# Altium footprint library pcb_marking_demo.PcbLib: 14 footprints
Each footprint in its own frame and in the unit in brackets; x right, y up, seen from the top. Pads: shape width x height; smd on the part's side, far side on the other; paste and mask are expansions set on the pad; w line width, h text height; cw(c..) or ccw(c..) is an arc to the next point about the centre after c.
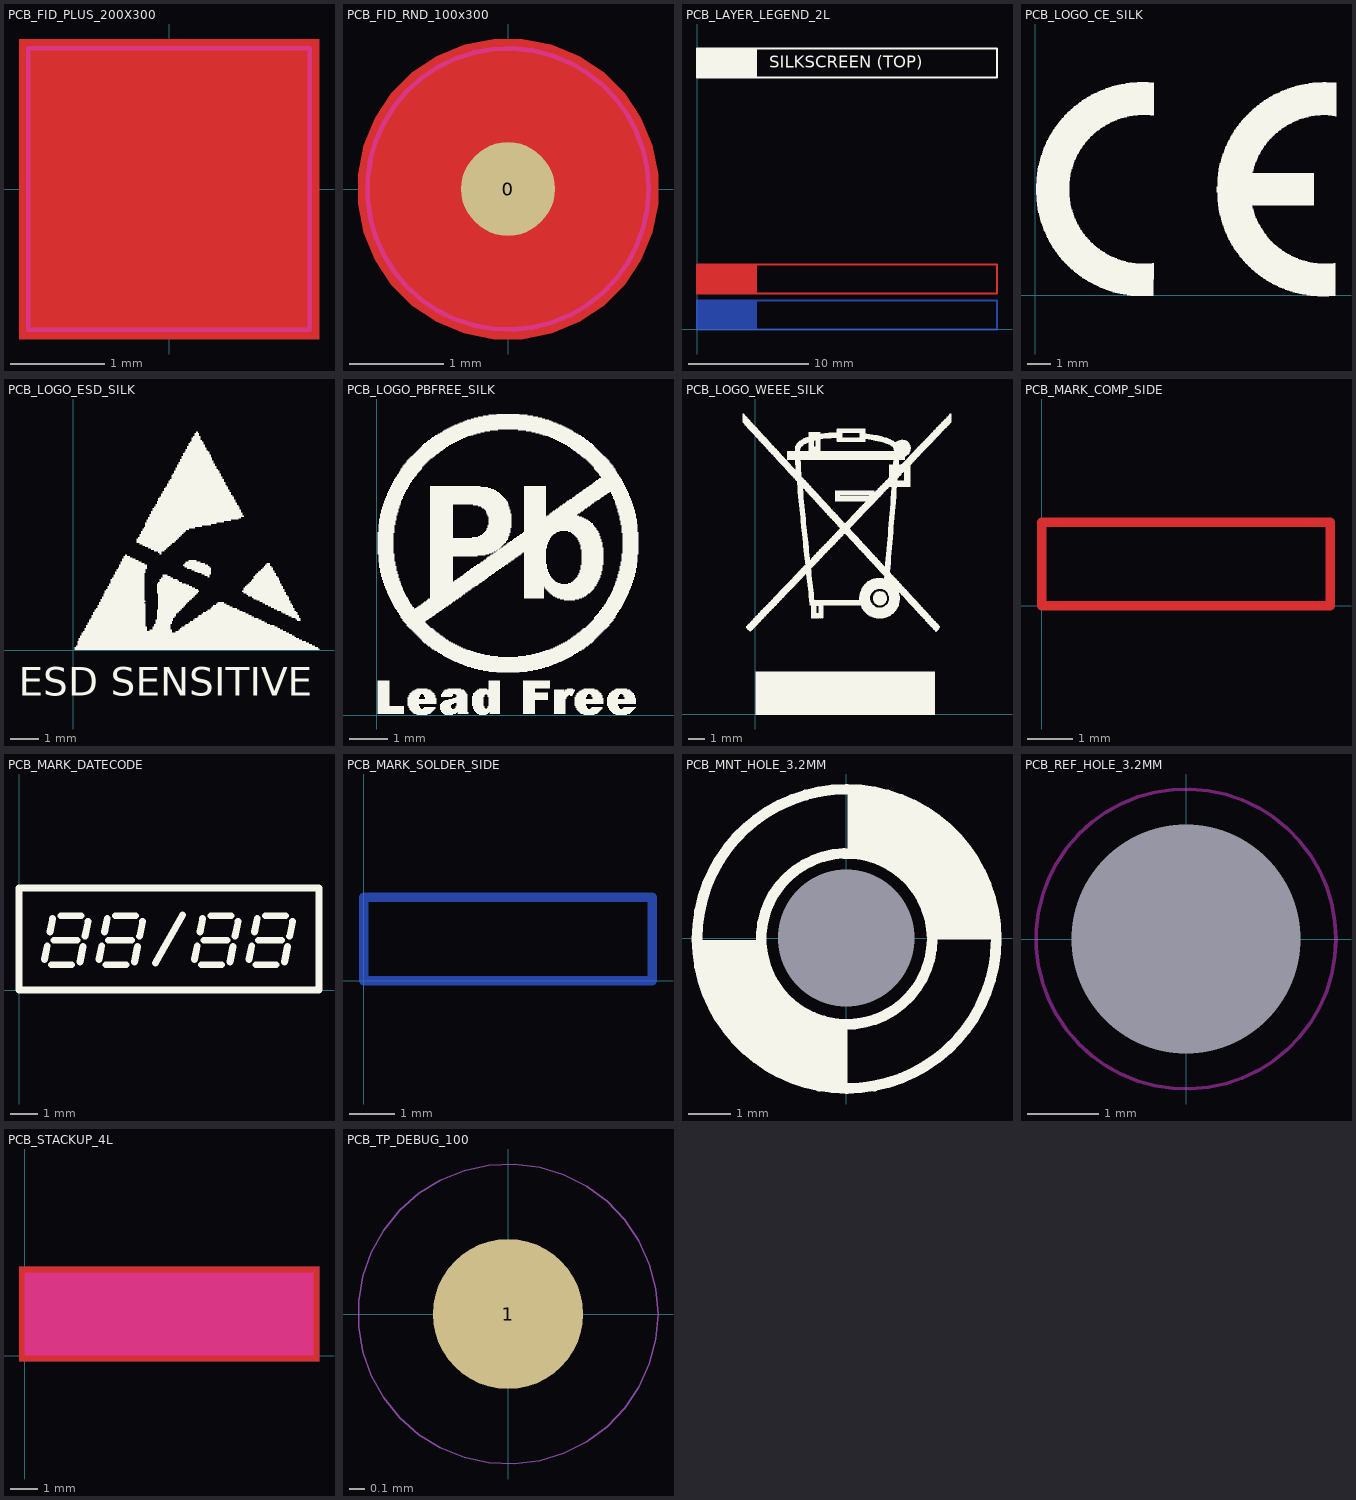
[diagram p0: the footprints below, top view; thin cyan lines are the x and y axes]

## PCB_FID_PLUS_200X300 [mm]
Top Layer:
  region: -0.2,-1 -0.2,-0.2 -1,-0.2 -1,0.2 -0.2,0.2 -0.2,1 0.2,1 0.2,0.2 1,0.2 1,-0.2 0.2,-0.2 0.2,-1
  pour cut-out: -1.6,1.6 1.6,1.6 1.6,-1.6 -1.6,-1.6
Top Layer keep-out:
  lines w0.05: -1.5,-1.5 1.5,-1.5 1.5,1.5 -1.5,1.5 -1.5,-1.5
Top Solder:
  rectangle: -1.5,-1.5 1.5,1.5

## PCB_FID_RND_100x300 [mm]
pads (1):
  round 1 smd paste-10 mask+1: 0(0,0)
Top Layer:
  pour cut-out: -1.6,0 -1.6,-0.158 -1.539,-0.467 -1.418,-0.758 -1.243,-1.02 -1.02,-1.243 -0.758,-1.418 -0.467,-1.539 -0.158,-1.6 0,-1.6 0.158,-1.6 0.467,-1.539 0.758,-1.418 1.02,-1.243 1.243,-1.02 1.418,-0.758 1.539,-0.467 1.6,-0.158 1.6,0 1.6,0.158 1.539,0.467 1.418,0.758 1.243,1.02 1.02,1.243 0.758,1.418 0.467,1.539 0.158,1.6 0,1.6 -0.158,1.6 -0.467,1.539 -0.758,1.418 -1.02,1.243 -1.243,1.02 -1.418,0.758 -1.539,0.467 -1.6,0.158
Top Layer keep-out:
  circle w0.05: c0,0 r1.5
Top Paste:
  pour cut-out: 0,1.6

## PCB_LAYER_LEGEND_2L [mm]
Top Layer:
  rectangle: 0,3 5,5.4
  lines w0.15: 0,3 25,3 25,5.4 0,5.4 0,3
  text "LAYER L1 (TOP)" at 6,3.8 h1
Bottom Layer:
  rectangle: 0,0 5,2.4
  lines w0.15: 0,0 0,2.4 25,2.4 25,0 0,0
  text "LAYER L2 (BOT)" at 6,0.8 h1
Top Overlay:
  rectangle: 0,21 5,23.4
  lines w0.15: 0,21 25,21 25,23.4 0,23.4 0,21
  text "SILKSCREEN (TOP)" at 6,21.8 h1
Bottom Overlay:
  rectangle: 0,18 5,20.4
  lines w0.15: 0,18 25,18 25,20.4 0,20.4 0,18
  text "SILKSCREEN (BOT)" at 6,18.8 h1
Top Paste:
  rectangle: 0,9 5,11.4
  lines w0.15: 0,9 25,9 25,11.4 0,11.4 0,9
  text "PASTEMASK (TOP)" at 6,9.8 h1
Bottom Paste:
  rectangle: 0,6 5,8.4
  lines w0.15: 0,6 25,6 25,8.4 0,8.4 0,6
  text "PASTEMASK (BOT)" at 6,6.8 h1
Top Solder:
  rectangle: 0,15 5,17.4
  lines w0.15: 0,15 25,15 25,17.4 0,17.4 0,15
  text "SOLDERMASK (TOP)" at 6,15.8 h1
Bottom Solder:
  rectangle: 0,12 5,14.4
  lines w0.15: 0,12 25,12 25,14.4 0,14.4 0,12
  text "SOLDERMASK (BOT)" at 6,12.8 h1

## PCB_LOGO_CE_SILK [mm]
Top Overlay:
  drawing of 717 lines, arcs and shapes, not listed

## PCB_LOGO_ESD_SILK [mm]
Top Overlay:
  drawing of 263 lines, arcs and shapes, not listed
  text "ESD SENSITIVE" at -1.9,-1.6 h1

## PCB_LOGO_PBFREE_SILK [mm]
Top Overlay:
  drawing of 1186 lines, arcs and shapes, not listed

## PCB_LOGO_WEEE_SILK [mm]
Top Overlay:
  drawing of 2013 lines, arcs and shapes, not listed

## PCB_MARK_COMP_SIDE [mm]
Top Layer:
  lines w0.203: 0,0 6.325,0 6.325,1.829 0,1.829 0,0
  text "C-SIDE" at 0.406,0.422 h1
Top Solder:
  rectangle: -0.127,-0.127 6.452,1.956

## PCB_MARK_DATECODE [mm]
Top Overlay:
  lines w0.25: 0,0 11,0 ; 0,3.75 11,3.75 ; 0.934,1.129 1.034,1.629 ; 1.134,2.129 1.234,2.629 ; 1.184,0.929 1.934,0.929 ; 1.284,1.829 2.134,1.829 ; 1.534,2.729 2.284,2.729 ; 2.234,1.029 2.348,1.601 ; 2.423,1.976 2.534,2.529 ; 2.934,1.129 3.034,1.629 ; 3.134,2.129 3.234,2.629 ; 3.184,0.929 3.934,0.929 ; 3.284,1.829 4.134,1.829 ; 3.534,2.729 4.284,2.729 ; 4.234,1.029 4.348,1.601 ; 4.423,1.976 4.534,2.529 ; 6.434,1.129 6.534,1.629 ; 6.634,2.129 6.734,2.629 ; 6.684,0.929 7.434,0.929 ; 6.784,1.829 7.634,1.829 ; 7.034,2.729 7.784,2.729 ; 7.734,1.029 7.848,1.601 ; 7.923,1.976 8.034,2.529 ; 8.434,1.129 8.534,1.629 ; 8.634,2.129 8.734,2.629 ; 8.684,0.929 9.434,0.929 ; 8.784,1.829 9.634,1.829 ; 9.034,2.729 9.784,2.729 ; 9.734,1.029 9.848,1.601 ; 9.923,1.976 10.034,2.529
  lines w0.254: 0,0 0,3.75 ; 5,1 6,2.75 ; 11,0 11,3.75

## PCB_MARK_SOLDER_SIDE [mm]
Bottom Layer:
  lines w0.203: 0,0 0,1.829 6.325,1.829 6.325,0 0,0
  text "S-SIDE" at 5.918,0.406 h1
Bottom Solder:
  rectangle: -0.127,-0.127 6.452,1.956

## PCB_MNT_HOLE_3.2MM [mm]
pads (1):
  round 0 hole 3.2 unplated: 0(0,0)
Top Overlay:
  circle w0.25: c0.007,-0.019 r2
  circle w0.25: c0.007,-0.019 r3.5
  region: -3.475,-0.175 -2,-0.175 -1.992,-0.329 -1.932,-0.631 -1.815,-0.915 -1.644,-1.171 -1.54,-1.285 -1.313,-1.512 -1.185,-1.628 -0.9,-1.818 -0.583,-1.95 -0.247,-2.017 -0.075,-2.025 -0.075,-3.525 -0.278,-3.493 -0.528,-3.493 -1.019,-3.396 -1.481,-3.204 -1.897,-2.926 -2.074,-2.749 -2.5,-2.475 -2.824,-1.987 -2.961,-1.85 -3.176,-1.529 -3.324,-1.171 -3.399,-0.792 -3.399,-0.599
  region: 3.5,0.1 2.025,0.1 2.017,0.254 1.957,0.556 1.84,0.84 1.669,1.096 1.565,1.21 1.338,1.437 1.21,1.553 0.925,1.743 0.608,1.875 0.272,1.942 0.1,1.95 0.1,3.45 0.303,3.418 0.553,3.418 1.044,3.321 1.506,3.129 1.922,2.851 2.099,2.674 2.525,2.4 2.849,1.912 2.986,1.775 3.201,1.454 3.349,1.096 3.424,0.717 3.424,0.524
  lines w0.25: -3.481,-0.174 -2.011,-0.174 ; -0.101,-3.494 -0.101,-2.024 ; 0.149,1.996 0.149,3.466 ; 2.019,0.086 3.489,0.086
  lines w0.254: 0.261,3.376 cw(c0.146,0.083) 3.438,0.205
Bottom Overlay:
  circle w0.25: c0.007,-0.019 r3.5
  circle w0.25: c0.007,-0.019 r2
  region: 3.525,0.075 2.05,0.075 2.042,0.229 1.982,0.531 1.865,0.815 1.694,1.071 1.59,1.185 1.363,1.412 1.235,1.528 0.95,1.718 0.633,1.85 0.297,1.917 0.125,1.925 0.125,3.425 0.328,3.393 0.578,3.393 1.069,3.296 1.531,3.104 1.947,2.826 2.124,2.649 2.55,2.375 2.874,1.887 3.011,1.75 3.226,1.429 3.374,1.071 3.449,0.692 3.449,0.499
  region: -3.475,-0.175 -2,-0.175 -1.992,-0.329 -1.932,-0.631 -1.815,-0.915 -1.644,-1.171 -1.54,-1.285 -1.313,-1.512 -1.185,-1.628 -0.9,-1.818 -0.583,-1.95 -0.247,-2.017 -0.075,-2.025 -0.075,-3.525 -0.278,-3.493 -0.528,-3.493 -1.019,-3.396 -1.481,-3.204 -1.897,-2.926 -2.074,-2.749 -2.5,-2.475 -2.824,-1.987 -2.961,-1.85 -3.176,-1.529 -3.324,-1.171 -3.399,-0.792 -3.399,-0.599
  lines w0.25: -3.481,-0.174 -2.011,-0.174 ; -0.101,-3.494 -0.101,-2.024 ; 0.149,1.996 0.149,3.466 ; 2.019,0.086 3.489,0.086
  lines w0.254: 0.261,3.376 cw(c0.146,0.083) 3.438,0.205

## PCB_REF_HOLE_3.2MM [mm]
pads (1):
  round 0 hole 3.2 unplated mask+0.2: 0(0,0)
Keep-Out Layer:
  circle w0.05: c0,0 r2.1

## PCB_STACKUP_4L [mm]
Top Layer:
  pour cut-out: -0.2,3.2 10.6,3.2 10.6,-0.2 -0.2,-0.2
  lines w0.3: 0.15,0.15 2.45,0.15 2.45,2.85 0.15,2.85 0.15,0.15
  text "1" at 1.05,0.75 h1.5
Mid-Layer 1:
  pour cut-out: -0.2,3.2 10.6,3.2 10.6,-0.2 -0.2,-0.2
  lines w0.3: 2.75,0.15 2.75,2.85 5.05,2.85 5.05,0.15 2.75,0.15
  text "2" at 3.4,0.75 h1.5
Mid-Layer 2:
  pour cut-out: -0.2,3.2 10.6,3.2 10.6,-0.2 -0.2,-0.2
  lines w0.3: 5.35,0.15 5.35,2.85 7.65,2.85 7.65,0.15 5.35,0.15
  text "3" at 6,0.75 h1.5
Bottom Layer:
  pour cut-out: 10.6,3.2 -0.2,3.2 -0.2,-0.2 10.6,-0.2
  lines w0.3: 7.95,0.15 7.95,2.85 10.25,2.85 10.25,0.15 7.95,0.15
  text "4" at 8.6,0.75 h1.5
Top Solder:
  rectangle: 2.6,0 10.4,3
Bottom Solder:
  rectangle: 0,0 7.8,3
Keep-Out Layer:
  rectangle: 0,0 10.4,3

## PCB_TP_DEBUG_100 [mm] "testpoint"
pads (1):
  round 1 smd paste-10: 1(0,0)
Mechanical 27:
  circle w0.01: c0,0 r1
  text ".Designator" at -0.6,-0.2 h0.5